# EAGLE library part ATTINY261 (library wolfi)
Atmel ATtiny261/461/861 Flash EEPROM RAM ATiny261 2048 128 128 ATtiny461 4096 256 256 ATtiny861 8192 512 512
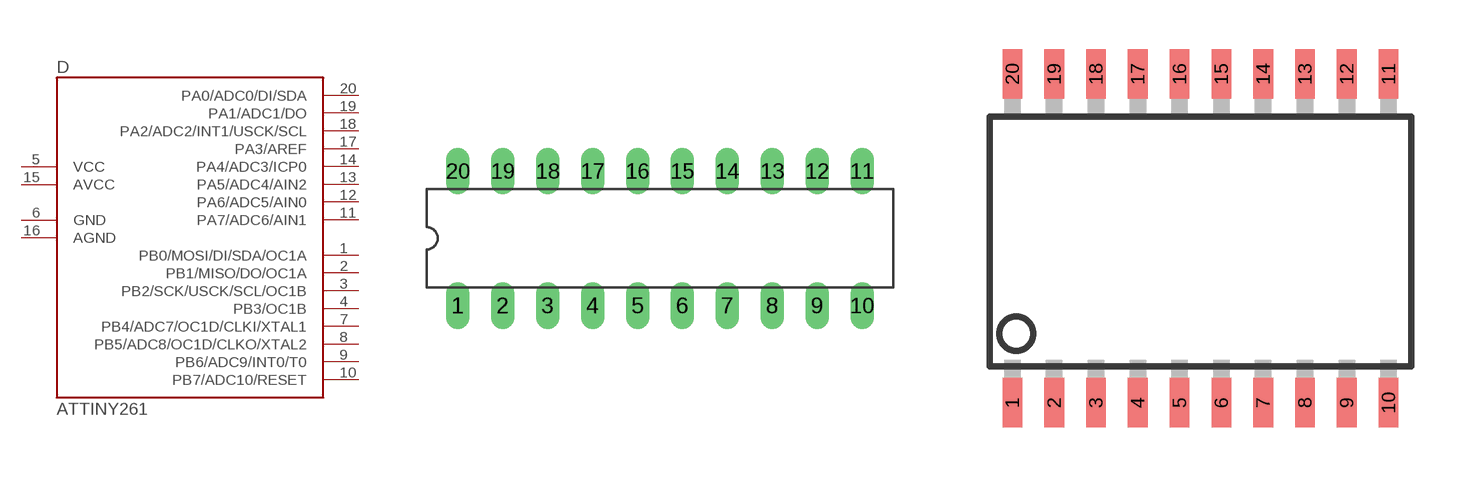
[diagram p22: symbol with the pads of DIL20; footprints DIL20, SOIC20S]

Designator prefix D

## ATTINY261PU  [DIL20]
1  PB0/MOSI/DI/SDA/OC1A  hiz
2  PB1/MISO/DO/OC1A  hiz
3  PB2/SCK/USCK/SCL/OC1B  hiz
4  PB3/OC1B  hiz
5  VCC  pwr
6  GND  pwr
7  PB4/ADC7/OC1D/CLKI/XTAL1  hiz
8  PB5/ADC8/OC1D/CLKO/XTAL2  hiz
9  PB6/ADC9/INT0/T0  hiz
10  PB7/ADC10/RESET  hiz
11  PA7/ADC6/AIN1  hiz
12  PA6/ADC5/AIN0  hiz
13  PA5/ADC4/AIN2  hiz
14  PA4/ADC3/ICP0  hiz
15  AVCC  pwr
16  AGND  pwr
17  PA3/AREF  hiz
18  PA2/ADC2/INT1/USCK/SCL  hiz
19  PA1/ADC1/DO  hiz
20  PA0/ADC0/DI/SDA  hiz

## ATTINY261SU  [SOIC20S]
Pads as for DIL20

## ATTINY261XU  [TSSOP20]
Pads as for DIL20

## ATTINY261MU, ATTINY261AMU  [MLF32]
2  PB3/OC1B  hiz
4  VCC  pwr
5  GND  pwr
7  PB4/ADC7/OC1D/CLKI/XTAL1  hiz
8  PB5/ADC8/OC1D/CLKO/XTAL2  hiz
10  PB6/ADC9/INT0/T0  hiz
11  PB7/ADC10/RESET  hiz
13  PA7/ADC6/AIN1  hiz
14  PA6/ADC5/AIN0  hiz
15  PA5/ADC4/AIN2  hiz
17  PA4/ADC3/ICP0  hiz
18  AVCC  pwr
21  AGND  pwr
22  PA3/AREF  hiz
23  PA2/ADC2/INT1/USCK/SCL  hiz
25  PA1/ADC1/DO  hiz
26  PA0/ADC0/DI/SDA  hiz
30  PB0/MOSI/DI/SDA/OC1A  hiz
31  PB1/MISO/DO/OC1A  hiz
32  PB2/SCK/USCK/SCL/OC1B  hiz

## ATTINY261AD  [DIL24-6]
Pads as for DIL20

## Footprint DIL20 (pad centres in mm)
Dual In Line
drill 0.813 long: 1 -11.43,-3.81; 2 -8.89,-3.81; 3 -6.35,-3.81; 4 -3.81,-3.81; 5 -1.27,-3.81; 6 1.27,-3.81; 7 3.81,-3.81; 8 6.35,-3.81; 9 8.89,-3.81; 10 11.43,-3.81; 11 11.43,3.81; 12 8.89,3.81; 13 6.35,3.81; 14 3.81,3.81; 15 1.27,3.81; 16 -1.27,3.81; 17 -3.81,3.81; 18 -6.35,3.81; 19 -8.89,3.81; 20 -11.43,3.81

## Footprint SOIC20S (pad centres in mm)
Wide Plastic Gull Wing Small Outline Package
smd 0.6 x 1.5: 1 -5.715,-5; 2 -4.445,-5; 3 -3.175,-5; 4 -1.905,-5; 5 -0.635,-5; 6 0.635,-5; 7 1.905,-5; 8 3.175,-5; 9 4.445,-5; 10 5.715,-5; 11 5.715,5; 12 4.445,5; 13 3.175,5; 14 1.905,5; 15 0.635,5; 16 -0.635,5; 17 -1.905,5; 18 -3.175,5; 19 -4.445,5; 20 -5.715,5

## Footprint TSSOP20 (pad centres in mm)
Thin Shrink Small Outline Plastic 20 MAX3223-MAX3243.pdf
smd 0.305 x 0.991: 1 -2.925,-2.918; 2 -2.275,-2.918; 3 -1.625,-2.918; 4 -0.975,-2.918; 5 -0.325,-2.918; 6 0.325,-2.918; 7 0.975,-2.918; 8 1.625,-2.918; 9 2.275,-2.918; 10 2.925,-2.918; 11 2.925,2.918; 12 2.275,2.918; 13 1.625,2.918; 14 0.975,2.918; 15 0.325,2.918; 16 -0.325,2.918; 17 -0.975,2.918; 18 -1.625,2.918; 19 -2.275,2.918; 20 -2.925,2.918

## Footprint MLF32 (pad centres in mm)
32M1-A Micro Lead Frame package (MLF)
smd 0.7 x 0.3: 1 -2.35,1.75; 2 -2.35,1.25; 3 -2.35,0.75; 4 -2.35,0.25; 5 -2.35,-0.25; 6 -2.35,-0.75; 7 -2.35,-1.25; 8 -2.35,-1.75; 17 2.35,-1.75; 18 2.35,-1.25; 19 2.35,-0.75; 20 2.35,-0.25; 21 2.35,0.25; 22 2.35,0.75; 23 2.35,1.25; 24 2.35,1.75
smd 0.3 x 0.7: 9 -1.75,-2.35; 10 -1.25,-2.35; 11 -0.75,-2.35; 12 -0.25,-2.35; 13 0.25,-2.35; 14 0.75,-2.35; 15 1.25,-2.35; 16 1.75,-2.35; 25 1.75,2.35; 26 1.25,2.35; 27 0.75,2.35; 28 0.25,2.35; 29 -0.25,2.35; 30 -0.75,2.35; 31 -1.25,2.35; 32 -1.75,2.35

## Footprint DIL24-6 (pad centres in mm)
Dual In Line Package 0.6 inch
drill 0.813 long: 1 -13.97,-7.62; 2 -11.43,-7.62; 3 -8.89,-7.62; 4 -6.35,-7.62; 5 -3.81,-7.62; 6 -1.27,-7.62; 7 1.27,-7.62; 8 3.81,-7.62; 9 6.35,-7.62; 10 8.89,-7.62; 11 8.89,7.62; 12 6.35,7.62; 13 3.81,7.62; 14 1.27,7.62; 15 -1.27,7.62; 16 -3.81,7.62; 17 -6.35,7.62; 18 -8.89,7.62; 19 -11.43,7.62; 20 -13.97,7.62